# Altium schematic symbol library MCP MCP1700 TT.SchLib: 1 symbol
Pins are listed as number, name and electrical type; pins without a type are passive.

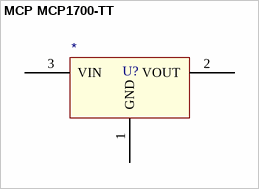
[diagram p0: symbol MCP MCP1700-TT]

## MCP MCP1700-TT
designator U?
Part Number: *
pins: 1 GND (power), 2 VOUT (power), 3 VIN (power)